# Altium footprint library TE_282841-2.PcbLib: 1 footprints
Each footprint in its own frame and in the unit in brackets; x right, y up, seen from the top. Pads: shape width x height; smd on the part's side, far side on the other; paste and mask are expansions set on the pad; w line width, h text height; cw(c..) or ccw(c..) is an arc to the next point about the centre after c.
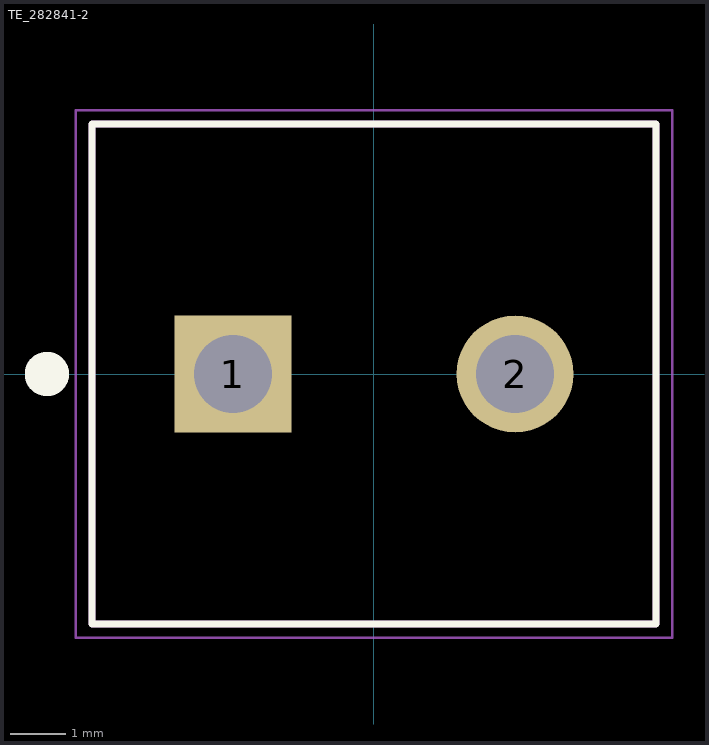
[diagram p0: the footprint, top view; thin cyan lines are the x and y axes]

## TE_282841-2 [mm]
pads (2):
  rect 2.1x2.1 / inner round 2.1 / far side rect 2.1x2.1 hole 1.4: 1(-2.54,0)
  round 2.1 hole 1.4: 2(2.54,0)
Top Overlay:
  circle w0.4: c-5.89,0 r0.2
  lines w0.127: -5.08,-4.5 -5.08,4.5 5.08,4.5 5.08,-4.5 -5.08,-4.5
Mechanical 13:
  circle w0.4: c-2.54,0 r0.2
  lines w0.127: -5.08,-4.5 -5.08,4.5 5.08,4.5 5.08,-4.5 -5.08,-4.5
Mechanical 15:
  lines w0.05: -5.37,-4.75 5.37,-4.75 5.37,4.75 -5.37,4.75 -5.37,-4.75
3D body "step_temp.STEP": height 15.2, standoff -3.5, extent -5.08,0 5.58,9